# EAGLE library part BQ3060 (library bq3060)
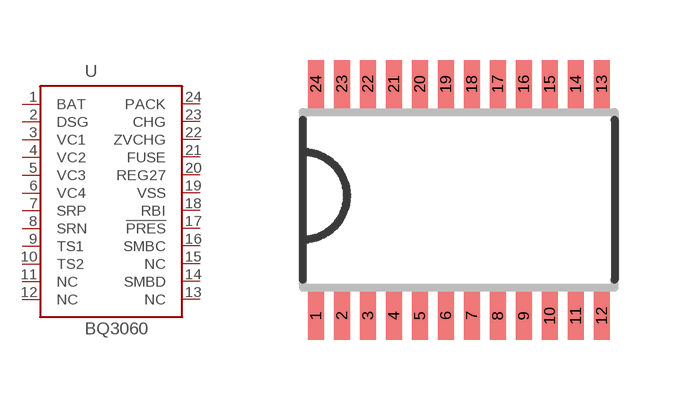
[diagram p0: symbol with the pads of PW-R-PDSO-G24; footprint PW-R-PDSO-G24]

Designator prefix U

## BQ3060PW  [PW-R-PDSO-G24]
1  BAT  pwr
2  DSG  out
3  VC1  in
4  VC2  in
5  VC3  in
6  VC4  in
7  SRP  in
8  SRN  in
9  TS1  in
10  TS2  in
11  NC  nc
12  NC  nc
13  NC  nc
14  SMBD
15  NC  nc
16  SMBC
17  !PRES  in
18  RBI  pwr
19  VSS  pwr
20  REG27  pwr
21  FUSE
22  ZVCHG  out
23  CHG  out
24  PACK  pwr

## Footprint PW-R-PDSO-G24 (pad centres in mm)
smd 0.4 x 1.2: 1 -3.575,-2.9; 2 -2.925,-2.9; 3 -2.275,-2.9; 4 -1.625,-2.9; 5 -0.975,-2.9; 6 -0.325,-2.9; 7 0.325,-2.9; 8 0.975,-2.9; 9 1.625,-2.9; 10 2.275,-2.9; 11 2.925,-2.9; 12 3.575,-2.9; 13 3.575,2.9; 14 2.925,2.9; 15 2.275,2.9; 16 1.625,2.9; 17 0.975,2.9; 18 0.325,2.9; 19 -0.325,2.9; 20 -0.975,2.9; 21 -1.625,2.9; 22 -2.275,2.9; 23 -2.925,2.9; 24 -3.575,2.9